# Altium schematic symbol library C0402C100J3GACTU.SchLib: 1 symbol
Pins are listed as number, name and electrical type; pins without a type are passive.

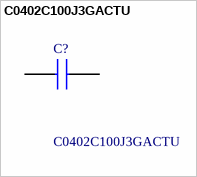
[diagram p0: symbol C0402C100J3GACTU]

## C0402C100J3GACTU
designator C?
SMD Comm C0G, Ceramic, 10 pF, 5%, 25 VDC, 62.5 VDC, 125C, -55C, C0G, SMD, MLCC, Ultra-Stable, Low Loss, Class I, 0.1 % , 100 GOhms, 1.06 mg, 0402, 1mm, 0.5mm, 0.5mm, 0.3mm, 0.3mm, 10000, 78  Weeks, 120; Manufacturer_Name: KEMET; Geometry.Height: 0.55mm; Manufacturer_Part_Number: C0402C100J3GACTU; Mouser Part Number: 80-C0402C100J3G; Mouser Price/Stock: https://www.mouser.co.uk/ProductDetail/KEMET/C0402C100J3GACTU?qs=B6asEe1xA0Wwdizk9L7KoQ%3D%3D; Arrow Part Number: C0402C100J3GACTU; Arrow Price/Stock: https://www.arrow.com/en/products/c0402c100j3gactu/kemet-corporation?region=nac; Datasheet Link: https://content.kemet.com/datasheets/KEM_C1002_X7R_SMD.pdf
footprint C0402C104J4RACTU
pins: 1, 2